# EAGLE library part MAX6071* (library BW-Active)
Precision voltage reference
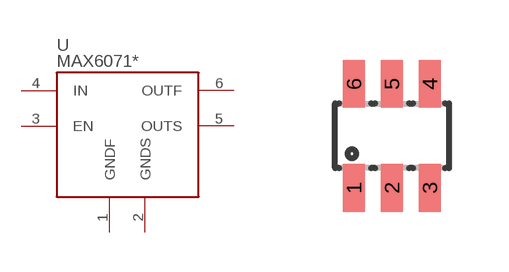
[diagram p11: symbol with the pads of SOT23-6L; footprint SOT23-6L]

Designator prefix U

## MAX6071A_30  [SOT23-6L]
1  GNDF
2  GNDS
3  EN
4  IN
5  OUTS
6  OUTF

## Footprint SOT23-6L (pad centres in mm)
Small Outline Transistor
smd 0.55 x 1.2: 1 -0.95,-1.3; 2 0,-1.3; 3 0.95,-1.3; 4 0.95,1.3; 5 0,1.3; 6 -0.95,1.3